# EAGLE library part IF_USB_SW_MAX4999 (library !GPLIB_ACTIVE)
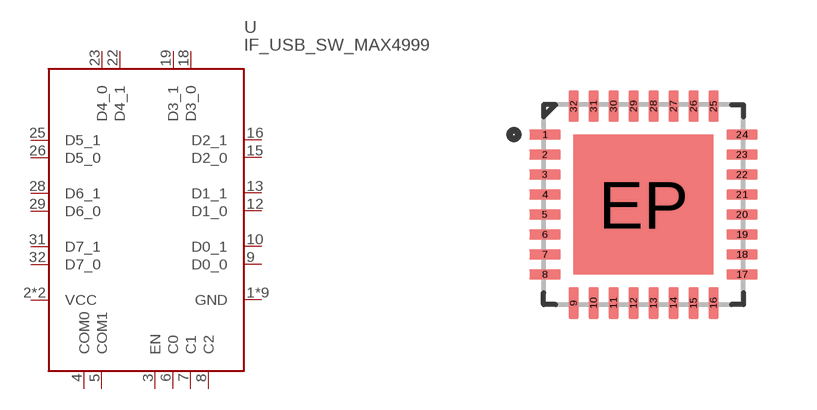
[diagram p39: symbol with the pads of QFN50P500X500X90-33N; footprint QFN50P500X500X90-33N]

Designator prefix U

## IF_USB_SW_MAX4999  [QFN50P500X500X90-33N]
1  GND
2  VCC
3  EN
4  COM0
5  COM1
6  C0
7  C1
8  C2
9  D0_0
10  D0_1
11  GND
12  D1_0
13  D1_1
14  GND
15  D2_0
16  D2_1
17  GND
18  D3_0
19  D3_1
20  VCC
21  GND
22  D4_1
23  D4_0
24  GND
25  D5_1
26  D5_0
27  GND
28  D6_1
29  D6_0
30  GND
31  D7_1
32  D7_0
EP  GND

## Footprint QFN50P500X500X90-33N (pad centres in mm)
smd 0.79 x 0.26: 1 -2.465,1.75; 2 -2.465,1.25; 3 -2.465,0.75; 4 -2.465,0.25; 5 -2.465,-0.25; 6 -2.465,-0.75; 7 -2.465,-1.25; 8 -2.465,-1.75; 17 2.465,-1.75; 18 2.465,-1.25; 19 2.465,-0.75; 20 2.465,-0.25; 21 2.465,0.25; 22 2.465,0.75; 23 2.465,1.25; 24 2.465,1.75
smd 0.26 x 0.79: 9 -1.75,-2.465; 10 -1.25,-2.465; 11 -0.75,-2.465; 12 -0.25,-2.465; 13 0.25,-2.465; 14 0.75,-2.465; 15 1.25,-2.465; 16 1.75,-2.465; 25 1.75,2.465; 26 1.25,2.465; 27 0.75,2.465; 28 0.25,2.465; 29 -0.25,2.465; 30 -0.75,2.465; 31 -1.25,2.465; 32 -1.75,2.465
smd 3.5 x 3.5: EP 0,0